# Altium integrated library Micron Memory RLDRAM Memory.IntLib: 73 symbols (part 6 of 39)
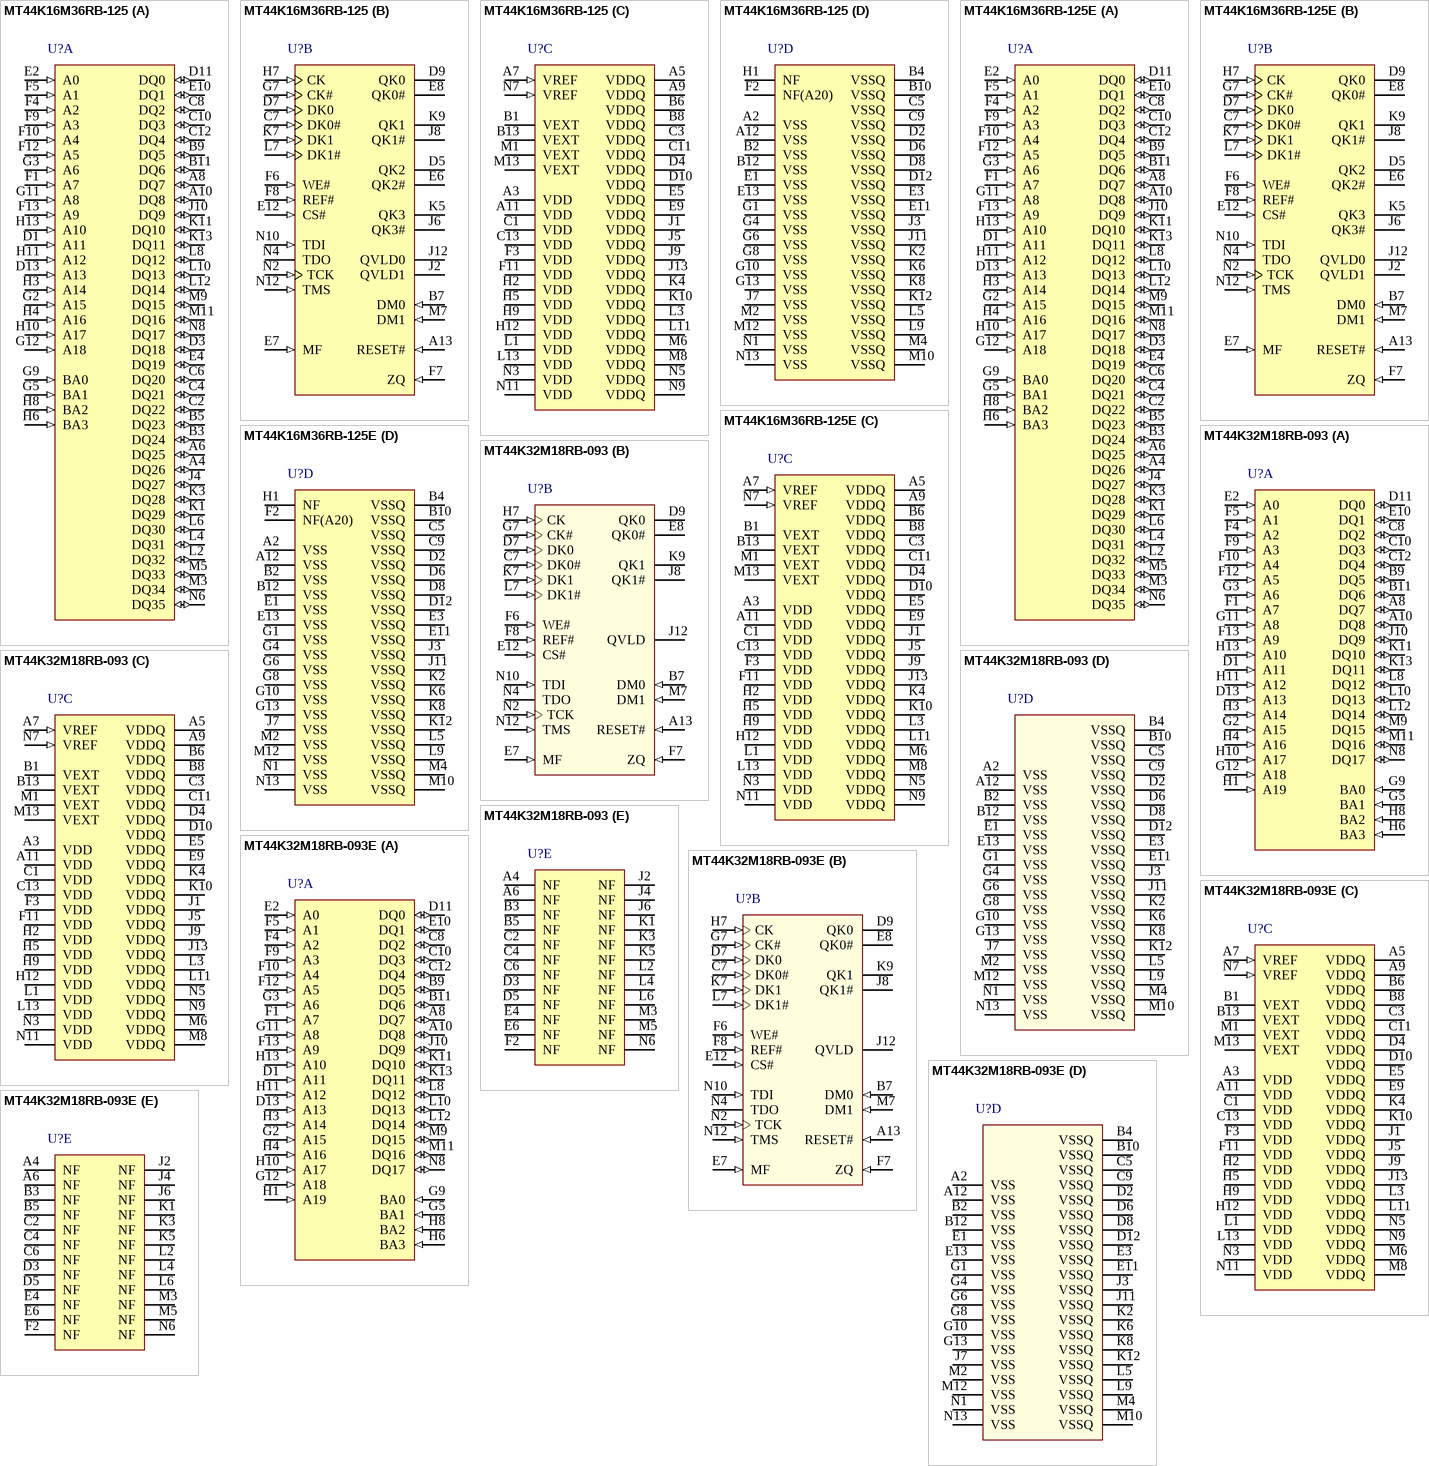
[diagram p21: symbols MT44K16M36RB-125 to MT44K32M18RB-093E]

## MT44K16M36RB-125E
designator U?
576Mb RLDRAM 3, 16Mb x 36, 10ns, 1.35V, 0 to 95 degC, 168-Ball FBGA, Pb-Free; Manufacturer: Micron; PartNumber: MT44K16M36RB-125E; Clock Rate: 800 MHz; I/O: Common; Op. Temp.: 0C to +95C; DatasheetVersion: Rev.B; PackageReference: MICT-RB-168; PackageDescription: 168-Ball Fine-Pitch Ball Grid Array, 13.5 x 13.5 mm, Pitch 1 mm; Cycle Time: 10ns; Density: 576Mb; Depth: 16Mb; Package: FBGA; Pin Count: 168-ball; RoHS: Yes; Technology: RLDRAM 3; Voltage: 1.35V; Width: x36; Mounting Technology: Surface Mount; ComponentLink1Description: Manufacturer URL; ComponentLink1URL: http://www.micron.com/; ComponentLink2Description: Datasheet; ComponentLink2URL: http://www.micron.com/~/media/Documents/Products/Data%20Sheet/DRAM/576mb_rldram3.pdf; ComponentLink3Description: Package Specification; ComponentLink3URL: http://www.micron.com/~/media/Documents/Products/Data%20Sheet/DRAM/576mb_rldram3.pdf
footprint MICT-RB-168 (BGA, 100-Balls, Body 13.5x13.5mm, Pitch 1mm)
part A pins: A4 DQ26 (io) "Data input: The DQ signals form the 36-bit data bus. During READ commands, the data is referenced to both edges of QK. During WRITE commands, the data is sampled at both edges of DK.", A6 DQ25 (io) "Data input: The DQ signals form the 36-bit data bus. During READ commands, the data is referenced to both edges of QK. During WRITE commands, the data is sampled at both edges of DK.", A8 DQ7 (io) "Data input: The DQ signals form the 36-bit data bus. During READ commands, the data is referenced to both edges of QK. During WRITE commands, the data is sampled at both edges of DK.", A10 DQ8 (io) "Data input: The DQ signals form the 36-bit data bus. During READ commands, the data is referenced to both edges of QK. During WRITE commands, the data is sampled at both edges of DK.", B3 DQ24 (io) "Data input: The DQ signals form the 36-bit data bus. During READ commands, the data is referenced to both edges of QK. During WRITE commands, the data is sampled at both edges of DK.", B5 DQ23 (io) "Data input: The DQ signals form the 36-bit data bus. During READ commands, the data is referenced to both edges of QK. During WRITE commands, the data is sampled at both edges of DK.", B9 DQ5 (io) "Data input: The DQ signals form the 36-bit data bus. During READ commands, the data is referenced to both edges of QK. During WRITE commands, the data is sampled at both edges of DK.", B11 DQ6 (io) "Data input: The DQ signals form the 36-bit data bus. During READ commands, the data is referenced to both edges of QK. During WRITE commands, the data is sampled at both edges of DK.", C2 DQ22 (io) "Data input: The DQ signals form the 36-bit data bus. During READ commands, the data is referenced to both edges of QK. During WRITE commands, the data is sampled at both edges of DK.", C4 DQ21 (io) "Data input: The DQ signals form the 36-bit data bus. During READ commands, the data is referenced to both edges of QK. During WRITE commands, the data is sampled at both edges of DK.", C6 DQ20 (io) "Data input: The DQ signals form the 36-bit data bus. During READ commands, the data is referenced to both edges of QK. During WRITE commands, the data is sampled at both edges of DK.", C8 DQ2 (io) "Data input: The DQ signals form the 36-bit data bus. During READ commands, the data is referenced to both edges of QK. During WRITE commands, the data is sampled at both edges of DK.", C10 DQ3 (io) "Data input: The DQ signals form the 36-bit data bus. During READ commands, the data is referenced to both edges of QK. During WRITE commands, the data is sampled at both edges of DK.", C12 DQ4 (io) "Data input: The DQ signals form the 36-bit data bus. During READ commands, the data is referenced to both edges of QK. During WRITE commands, the data is sampled at both edges of DK.", D1 A11 (in) "Address inputs: A[19:0] define the row and column addresses for READ and WRITE operations. During a MODE REGISTER SET, the address inputs define the register settings along with BA[3:0]. They are sampled at the rising edge (See Datasheet)", D3 DQ18 (io) "Data input: The DQ signals form the 36-bit data bus. During READ commands, the data is referenced to both edges of QK. During WRITE commands, the data is sampled at both edges of DK.", D11 DQ0 (io) "Data input: The DQ signals form the 36-bit data bus. During READ commands, the data is referenced to both edges of QK. During WRITE commands, the data is sampled at both edges of DK.", D13 A13 (in) "Address inputs: A[19:0] define the row and column addresses for READ and WRITE operations. During a MODE REGISTER SET, the address inputs define the register settings along with BA[3:0]. They are sampled at the rising edge (See Datasheet)", E2 A0 (in) "Address inputs: A[19:0] define the row and column addresses for READ and WRITE operations. During a MODE REGISTER SET, the address inputs define the register settings along with BA[3:0]. They are sampled at the rising edge (See Datasheet)", E4 DQ19 (io) "Data input: The DQ signals form the 36-bit data bus. During READ commands, the data is referenced to both edges of QK. During WRITE commands, the data is sampled at both edges of DK.", E10 DQ1 (io) "Data input: The DQ signals form the 36-bit data bus. During READ commands, the data is referenced to both edges of QK. During WRITE commands, the data is sampled at both edges of DK.", F1 A7 (in) "Address inputs: A[19:0] define the row and column addresses for READ and WRITE operations. During a MODE REGISTER SET, the address inputs define the register settings along with BA[3:0]. They are sampled at the rising edge (See Datasheet)", F4 A2 (in) "Address inputs: A[19:0] define the row and column addresses for READ and WRITE operations. During a MODE REGISTER SET, the address inputs define the register settings along with BA[3:0]. They are sampled at the rising edge (See Datasheet)", F5 A1 (in) "Address inputs: A[19:0] define the row and column addresses for READ and WRITE operations. During a MODE REGISTER SET, the address inputs define the register settings along with BA[3:0]. They are sampled at the rising edge (See Datasheet)", F9 A3 (in) "Address inputs: A[19:0] define the row and column addresses for READ and WRITE operations. During a MODE REGISTER SET, the address inputs define the register settings along with BA[3:0]. They are sampled at the rising edge (See Datasheet)", F10 A4 (in) "Address inputs: A[19:0] define the row and column addresses for READ and WRITE operations. During a MODE REGISTER SET, the address inputs define the register settings along with BA[3:0]. They are sampled at the rising edge (See Datasheet)", F12 A5 (in) "Address inputs: A[19:0] define the row and column addresses for READ and WRITE operations. During a MODE REGISTER SET, the address inputs define the register settings along with BA[3:0]. They are sampled at the rising edge (See Datasheet)", F13 A9 (in) "Address inputs: A[19:0] define the row and column addresses for READ and WRITE operations. During a MODE REGISTER SET, the address inputs define the register settings along with BA[3:0]. They are sampled at the rising edge (See Datasheet)", G2 A15 (in) "Address inputs: A[19:0] define the row and column addresses for READ and WRITE operations. During a MODE REGISTER SET, the address inputs define the register settings along with BA[3:0]. They are sampled at the rising edge (See Datasheet)", G3 A6 (in) "79", G5 BA1 (in) "Bank address inputs: Select the internal bank to which a command is being applied.", G9 BA0 (in) "Bank address inputs: Select the internal bank to which a command is being applied.", G11 A8 (in) "Address inputs: A[19:0] define the row and column addresses for READ and WRITE operations. During a MODE REGISTER SET, the address inputs define the register settings along with BA[3:0]. They are sampled at the rising edge (See Datasheet)", G12 A18 (in) "Address inputs: A[19:0] define the row and column addresses for READ and WRITE operations. During a MODE REGISTER SET, the address inputs define the register settings along with BA[3:0]. They are sampled at the rising edge (See Datasheet)", H3 A14 (in) "Address inputs: A[19:0] define the row and column addresses for READ and WRITE operations. During a MODE REGISTER SET, the address inputs define the register settings along with BA[3:0]. They are sampled at the rising edge (See Datasheet)", H4 A16 (in) "Address inputs: A[19:0] define the row and column addresses for READ and WRITE operations. During a MODE REGISTER SET, the address inputs define the register settings along with BA[3:0]. They are sampled at the rising edge (See Datasheet)", H6 BA3 (in) "Bank address inputs: Select the internal bank to which a command is being applied.", H8 BA2 (in) "Bank address inputs: Select the internal bank to which a command is being applied.", H10 A17 (in) "Address inputs: A[19:0] define the row and column addresses for READ and WRITE operations. During a MODE REGISTER SET, the address inputs define the register settings along with BA[3:0]. They are sampled at the rising edge (See Datasheet)", H11 A12 (in) "Address inputs: A[19:0] define the row and column addresses for READ and WRITE operations. During a MODE REGISTER SET, the address inputs define the register settings along with BA[3:0]. They are sampled at the rising edge (See Datasheet)", H13 A10 (in) "Address inputs: A[19:0] define the row and column addresses for READ and WRITE operations. During a MODE REGISTER SET, the address inputs define the register settings along with BA[3:0]. They are sampled at the rising edge (See Datasheet)", J4 DQ27 (io) "Data input: The DQ signals form the 36-bit data bus. During READ commands, the data is referenced to both edges of QK. During WRITE commands, the data is sampled at both edges of DK", J10 DQ9 (io) "Data input: The DQ signals form the 36-bit data bus. During READ commands, the data is referenced to both edges of QK. During WRITE commands, the data is sampled at both edges of DK.", K1 DQ29 (io) "Data input: The DQ signals form the 36-bit data bus. During READ commands, the data is referenced to both edges of QK. During WRITE commands, the data is sampled at both edges of DK.", K3 DQ28 (io) "Data input: The DQ signals form the 36-bit data bus. During READ commands, the data is referenced to both edges of QK. During WRITE commands, the data is sampled at both edges of DK.", K11 DQ10 (io) "Data input: The DQ signals form the 36-bit data bus. During READ commands, the data is referenced to both edges of QK. During WRITE commands, the data is sampled at both edges of DK.", K13 DQ11 (io) "Data input: The DQ signals form the 36-bit data bus. During READ commands, the data is referenced to both edges of QK. During WRITE commands, the data is sampled at both edges of DK.", L2 DQ32 (io) "Data input: The DQ signals form the 36-bit data bus. During READ commands, the data is referenced to both edges of QK. During WRITE commands, the data is sampled at both edges of DK.", L4 DQ31 (io) "Data input: The DQ signals form the 36-bit data bus. During READ commands, the data is referenced to both edges of QK. During WRITE commands, the data is sampled at both edges of DK.", L6 DQ30 (io) "Data input: The DQ signals form the 36-bit data bus. During READ commands, the data is referenced to both edges of QK. During WRITE commands, the data is sampled at both edges of DK.", L8 DQ12 (io) "Data input: The DQ signals form the 36-bit data bus. During READ commands, the data is referenced to both edges of QK. During WRITE commands, the data is sampled at both edges of DK.", L10 DQ13 (io) "Data input: The DQ signals form the 36-bit data bus. During READ commands, the data is referenced to both edges of QK. During WRITE commands, the data is sampled at both edges of DK.", L12 DQ14 (io) "Data input: The DQ signals form the 36-bit data bus. During READ commands, the data is referenced to both edges of QK. During WRITE commands, the data is sampled at both edges of DK.", M3 DQ34 (io) "Data input: The DQ signals form the 36-bit data bus. During READ commands, the data is referenced to both edges of QK. During WRITE commands, the data is sampled at both edges of DK.", M5 DQ33 (io) "Data input: The DQ signals form the 36-bit data bus. During READ commands, the data is referenced to both edges of QK. During WRITE commands, the data is sampled at both edges of DK.", M9 DQ15 (io) "Data input: The DQ signals form the 36-bit data bus. During READ commands, the data is referenced to both edges of QK. During WRITE commands, the data is sampled at both edges of DK.", M11 DQ16 (io) "Data input: The DQ signals form the 36-bit data bus. During READ commands, the data is referenced to both edges of QK. During WRITE commands, the data is sampled at both edges of DK.", N6 DQ35 (io) "Data input: The DQ signals form the 36-bit data bus. During READ commands, the data is referenced to both edges of QK. During WRITE commands, the data is sampled at both edges of DK.", N8 DQ17 (io) "Data input: The DQ signals form the 36-bit data bus. During READ commands, the data is referenced to both edges of QK. During WRITE commands, the data is sampled at both edges of DK."
part B pins: A13 RESET# (in) "Reset: RESET# is an active LOW CMOS input referenced to VSS . RESET# assertion and deassertion are asynchronous. RESET# is a CMOS input defined with DC HIGH >= 0.8 x VDD and DC LOW =< 0.2 x VDDQ.", B7 DM0 (in) "Input data mask: DM is the input mask signal for WRITE data. Input data is masked when DM is sampled HIGH. DM0 is used to mask the lower byte for the x18 device and DQ[8:0] and DQ[26:18] for the x36 device. DM1 is used to (See Datasheet)", C7 DK0# (in) "Input data clock: DKx and DKx# are differential input data clocks. All input data is referenced to both edges of DKx. For the x36 device, DQ[8:0] and DQ[26:18] are referenced to DK0 and DK0#, and DQ[17:9] and DQ[35:27] are (See Datasheet)", D5 QK2 (hiz) "Output data clocks: QK and QK# are opposite-polarity output data clocks. They are free-running signals and during READ commands are edge-aligned with the DQs. For the x36 device, QK0, QK0# align with DQ[8:0]; QK1, QK1# align (See Datasheet)", D7 DK0 (in) "Input data clock: DKx and DKx# are differential input data clocks. All input data is referenced to both edges of DKx. For the x36 device, DQ[8:0] and DQ[26:18] are referenced to DK0 and DK0#, and DQ[17:9] and DQ[35:27] are (See Datasheet)", D9 QK0 (hiz) "Output data clocks: QK and QK# are opposite-polarity output data clocks. They are free-running signals and during READ commands are edge-aligned with the DQs. For the x36 device, QK0, QK0# align with DQ[8:0]; QK1, QK1# align (See Datasheet)", E6 QK2# (hiz) "Output data clocks: QK and QK# are opposite-polarity output data clocks. They are free-running signals and during READ commands are edge-aligned with the DQs. For the x36 device, QK0, QK0# align with DQ[8:0]; QK1, QK1# align (See Datasheet)", E7 MF (in) "Mirror function: The mirror function ball is a DC input used to create mirrored ballouts for simple dual-loaded clamshell mounting. If the ball is tied to VSS , the address and command balls are in their true layout. If the (See Datasheet)", E8 QK0# (hiz) "Output data clocks: QK and QK# are opposite-polarity output data clocks. They are free-running signals and during READ commands are edge-aligned with the DQs. For the x36 device, QK0, QK0# align with DQ[8:0]; QK1, QK1# align (See Datasheet)", E12 CS# (in) "Chip select: CS# enables the command decoder when LOW and disables it when HIGH. When the command decoder is disabled, new commands are ignored, but internal operations continue.", F6 WE# (in) "Command inputs: Sampled at the positive edge of CK, WE# and REF# (together with CS#) define the command to be executed.", F7 ZQ (in) "External impedance: This signal is used to tune the device’s output impedance and ODT. RZQ needs to be 240ohm, where RZQ is a resistor from this signal to ground.", F8 REF# (in) "Command inputs: Sampled at the positive edge of CK, WE# and REF# (together with CS#) define the command to be executed.", G7 CK# (in) "Input clock: CK and CK# are differential input clocks. Addresses and commands are latched on the rising edge of CK.", H7 CK (in) "Input clock: CK and CK# are differential input clocks. Addresses and commands are latched on the rising edge of CK.", J2 QVLD1 (hiz) "Data valid: The QVLD ball indicates that valid output data will be available on the subsequent rising clock edge. There is a single QVLD ball for the x18 device and two, QVLD0 and QVLD1, for the x36 device. QVLD0 aligns with (See Datasheet)", J6 QK3# (hiz) "Output data clocks: QK and QK# are opposite-polarity output data clocks. They are free-running signals and during READ commands are edge-aligned with the DQs. For the x36 device, QK0, QK0# align with DQ[8:0]; QK1, QK1# align (See Datasheet)", J8 QK1# (hiz) "Output data clocks: QK and QK# are opposite-polarity output data clocks. They are free-running signals and during READ commands are edge-aligned with the DQs. For the x36 device, QK0, QK0# align with DQ[8:0]; QK1, QK1# align (See Datasheet)", J12 QVLD0 (hiz) "Data valid: The QVLD ball indicates that valid output data will be available on the subsequent rising clock edge. There is a single QVLD ball for the x18 device and two, QVLD0 and QVLD1, for the x36 device. QVLD0 aligns with (See Datasheet)", K5 QK3 (hiz) "Output data clocks: QK and QK# are opposite-polarity output data clocks. They are free-running signals and during READ commands are edge-aligned with the DQs. For the x36 device, QK0, QK0# align with DQ[8:0]; QK1, QK1# align (See Datasheet)", K7 DK1 (in) "Input data clock: DKx and DKx# are differential input data clocks. All input data is referenced to both edges of DKx. For the x36 device, DQ[8:0] and DQ[26:18] are referenced to DK0 and DK0#, and DQ[17:9] and DQ[35:27] are (See Datasheet)", K9 QK1 (hiz) "Output data clocks: QK and QK# are opposite-polarity output data clocks. They are free-running signals and during READ commands are edge-aligned with the DQs. For the x36 device, QK0, QK0# align with DQ[8:0]; QK1, QK1# align (See Datasheet)", L7 DK1# (in) "Input data clock: DKx and DKx# are differential input data clocks. All input data is referenced to both edges of DKx. For the x36 device, DQ[8:0] and DQ[26:18] are referenced to DK0 and DK0#, and DQ[17:9] and DQ[35:27] are (See Datasheet)", M7 DM1 (in) "Input data mask: DM is the input mask signal for WRITE data. Input data is masked when DM is sampled HIGH. DM0 is used to mask the lower byte for the x18 device and DQ[8:0] and DQ[26:18] for the x36 device. DM1 is used to (See Datasheet)", N2 TCK (in) "IEEE 1149.1 clock input: This ball must be tied to VSS  if the JTAG function is not used.", N4 TDO (hiz) "IEEE 1149.1 test output: JTAG output. This ball may be left as no connect if the JTAG function is not used.", N10 TDI (in) "IEEE 1149.1 test inputs: These balls may be left as no connects if the JTAG function is not used.", N12 TMS (in) "IEEE 1149.1 test inputs: These balls may be left as no connects if the JTAG function is not used."
part C pins: A3 VDD (power) "Power supply: 1.35V nominal. See Table 7 (page 22) for range.", A5 VDDQ (power) "DQ power supply: 1.2V nominal. Isolated on the device for improved noise immunity. See Table 7 (page 22) for range.", A7 VREF (in) "Input reference voltage: VDDQ/2 nominal. Provides a reference voltage for the input buffers.", A9 VDDQ (power) "DQ power supply: 1.2V nominal. Isolated on the device for improved noise immunity. See Table 7 (page 22) for range.", A11 VDD (power) "Power supply: 1.35V nominal. See Table 7 (page 22) for range.", B1 VEXT (power) "Power supply: 2.5V nominal. See Table 7 (page 22) for range", B6 VDDQ (power) "DQ power supply: 1.2V nominal. Isolated on the device for improved noise immunity. See Table 7 (page 22) for range.", B8 VDDQ (power) "DQ power supply: 1.2V nominal. Isolated on the device for improved noise immunity. See Table 7 (page 22) for range.", B13 VEXT (power) "Power supply: 2.5V nominal. See Table 7 (page 22) for range", C1 VDD (power) "Power supply: 1.35V nominal. See Table 7 (page 22) for range.", C3 VDDQ (power) "DQ power supply: 1.2V nominal. Isolated on the device for improved noise immunity. See Table 7 (page 22) for range.", C11 VDDQ (power) "DQ power supply: 1.2V nominal. Isolated on the device for improved noise immunity. See Table 7 (page 22) for range.", C13 VDD (power) "Power supply: 1.35V nominal. See Table 7 (page 22) for range.", D4 VDDQ (power) "DQ power supply: 1.2V nominal. Isolated on the device for improved noise immunity. See Table 7 (page 22) for range.", D10 VDDQ (power) "DQ power supply: 1.2V nominal. Isolated on the device for improved noise immunity. See Table 7 (page 22) for range.", E5 VDDQ (power) "DQ power supply: 1.2V nominal. Isolated on the device for improved noise immunity. See Table 7 (page 22) for range.", E9 VDDQ (power) "DQ power supply: 1.2V nominal. Isolated on the device for improved noise immunity. See Table 7 (page 22) for range.", F3 VDD (power) "Power supply: 1.35V nominal. See Table 7 (page 22) for range.", F11 VDD (power) "Power supply: 1.35V nominal. See Table 7 (page 22) for range.", H2 VDD (power) "Power supply: 1.35V nominal. See Table 7 (page 22) for range.", H5 VDD (power) "Power supply: 1.35V nominal. See Table 7 (page 22) for range.", H9 VDD (power) "Power supply: 1.35V nominal. See Table 7 (page 22) for range.", H12 VDD (power) "Power supply: 1.35V nominal. See Table 7 (page 22) for range.", J1 VDDQ (power) "DQ power supply: 1.2V nominal. Isolated on the device for improved noise immunity. See Table 7 (page 22) for range.", J5 VDDQ (power) "DQ power supply: 1.2V nominal. Isolated on the device for improved noise immunity. See Table 7 (page 22) for range.", J9 VDDQ (power) "DQ power supply: 1.2V nominal. Isolated on the device for improved noise immunity. See Table 7 (page 22) for range.", J13 VDDQ (power) "rising clock edge. There is a single QVLD ball for the x18 device and two, QVLD0 and QVLD1, for", K4 VDDQ (power) "DQ power supply: 1.2V nominal. Isolated on the device for improved noise immunity. See Table 7 (page 22) for range.", K10 VDDQ (power) "DQ power supply: 1.2V nominal. Isolated on the device for improved noise immunity. See Table 7 (page 22) for range.", L1 VDD (power) "Power supply: 1.35V nominal. See Table 7 (page 22) for range.", L3 VDDQ (power) "DQ power supply: 1.2V nominal. Isolated on the device for improved noise immunity. See Table 7 (page 22) for range.", L11 VDDQ (power) "DQ power supply: 1.2V nominal. Isolated on the device for improved noise immunity. See Table 7 (page 22) for range.", L13 VDD (power) "Power supply: 1.35V nominal. See Table 7 (page 22) for range.", M1 VEXT (power) "Power supply: 2.5V nominal. See Table 7 (page 22) for range", M6 VDDQ (power) "DQ power supply: 1.2V nominal. Isolated on the device for improved noise immunity. See Table 7 (page 22) for range.", M8 VDDQ (power) "DQ power supply: 1.2V nominal. Isolated on the device for improved noise immunity. See Table 7 (page 22) for range.", M13 VEXT (power) "Power supply: 2.5V nominal. See Table 7 (page 22) for range.", N3 VDD (power) "Power supply: 1.35V nominal. See Table 7 (page 22) for range.", N5 VDDQ (power) "DQ power supply: 1.2V nominal. Isolated on the device for improved noise immunity. See Table 7 (page 22) for range.", N7 VREF (in) "Input reference voltage: VDDQ/2 nominal. Provides a reference voltage for the input buffers.", N9 VDDQ (power) "DQ power supply: 1.2V nominal. Isolated on the device for improved noise immunity. See Table 7 (page 22) for range.", N11 VDD (power) "Power supply: 1.35V nominal. See Table 7 (page 22) for range."
part D pins: A2 VSS (power) "Ground", A12 VSS (power) "Ground", B2 VSS (power) "Ground", B4 VSSQ (power) "DQ ground: Isolated on the device for improved noise immunity", B10 VSSQ (power) "DQ ground: Isolated on the device for improved noise immunity", B12 VSS (power) "Ground", C5 VSSQ (power) "DQ ground: Isolated on the device for improved noise immunity", C9 VSSQ (power) "DQ ground: Isolated on the device for improved noise immunity", D2 VSSQ (power) "DQ ground: Isolated on the device for improved noise immunity", D6 VSSQ (power) "DQ ground: Isolated on the device for improved noise immunity", D8 VSSQ (power) "DQ ground: Isolated on the device for improved noise immunity", D12 VSSQ (power) "DQ ground: Isolated on the device for improved noise immunity", E1 VSS (power) "Ground", E3 VSSQ (power) "DQ ground: Isolated on the device for improved noise immunity", E11 VSSQ (power) "DQ ground: Isolated on the device for improved noise immunity", E13 VSS (power) "Ground", F2 NF(A20) "No function: These balls are connected to the DRAM, but provide no functionality.", G1 VSS (power) "Ground", G4 VSS (power) "Ground", G6 VSS (power) "Ground", G8 VSS (power) "Ground.", G10 VSS (power) "Ground.", G13 VSS (power) "Ground", H1 NF "No function: These balls are connected to the DRAM, but provide no functionality", J3 VSSQ (power) "DQ ground: Isolated on the device for improved noise immunity", J7 VSS (power) "Ground", J11 VSSQ (power) "DQ ground: Isolated on the device for improved noise immunity", K2 VSSQ (power) "DQ ground: Isolated on the device for improved noise immunity", K6 VSSQ (power) "DQ ground: Isolated on the device for improved noise immunity.", K8 VSSQ (power) "DQ ground: Isolated on the device for improved noise immunity", K12 VSSQ (power) "DQ ground: Isolated on the device for improved noise immunity", L5 VSSQ (power) "DQ ground: Isolated on the device for improved noise immunity", L9 VSSQ (power) "DQ ground: Isolated on the device for improved noise immunity", M2 VSS (power) "Ground", M4 VSSQ (power) "DQ ground: Isolated on the device for improved noise immunity", M10 VSSQ (power) "DQ ground: Isolated on the device for improved noise immunity", M12 VSS (power) "Ground", N1 VSS (power) "Ground.", N13 VSS (power) "Ground"

## MT44K32M18RB-093
designator U?
576Mb RLDRAM 3, 32Mb x 18, 10ns, 1.35V, 0 to 70 degC, 168-Ball FBGA, Pb-Free; Manufacturer: Micron; PartNumber: MT44K32M18RB-093; Clock Rate: 1067 MHz; I/O: Common; Op. Temp.: 0C to +70C; DatasheetVersion: Rev.B; PackageReference: MICT-RB-168; PackageDescription: 168-Ball Fine-Pitch Ball Grid Array, 13.5 x 13.5 mm, Pitch 1 mm; Cycle Time: 10ns; Density: 576Mb; Depth: 32Mb; Package: FBGA; Pin Count: 168-ball; RoHS: Yes; Technology: RLDRAM 3; Voltage: 1.35V; Width: x18; Mounting Technology: Surface Mount; ComponentLink1Description: Manufacturer URL; ComponentLink1URL: http://www.micron.com/; ComponentLink2Description: Datasheet; ComponentLink2URL: http://www.micron.com/~/media/Documents/Products/Data%20Sheet/DRAM/576mb_rldram3.pdf; ComponentLink3Description: Package Specification; ComponentLink3URL: http://www.micron.com/~/media/Documents/Products/Data%20Sheet/DRAM/576mb_rldram3.pdf
footprint MICT-RB-168 (BGA, 100-Balls, Body 13.5x13.5mm, Pitch 1mm)
part A pins: A8 DQ7 (io) "Data input: The DQ signals form the 36-bit data bus. During READ commands, the data is referenced to both edges of QK. During WRITE commands, the data is sampled at both edges of DK.", A10 DQ8 (io) "Data input: The DQ signals form the 36-bit data bus. During READ commands, the data is referenced to both edges of QK. During WRITE commands, the data is sampled at both edges of DK.", B9 DQ5 (io) "Data input: The DQ signals form the 36-bit data bus. During READ commands, the data is referenced to both edges of QK. During WRITE commands, the data is sampled at both edges of DK.", B11 DQ6 (io) "Data input: The DQ signals form the 36-bit data bus. During READ commands, the data is referenced to both edges of QK. During WRITE commands, the data is sampled at both edges of DK.", C8 DQ2 (io) "Data input: The DQ signals form the 36-bit data bus. During READ commands, the data is referenced to both edges of QK. During WRITE commands, the data is sampled at both edges of DK.", C10 DQ3 (io) "Data input: The DQ signals form the 36-bit data bus. During READ commands, the data is referenced to both edges of QK. During WRITE commands, the data is sampled at both edges of DK.", C12 DQ4 (io) "Data input: The DQ signals form the 36-bit data bus. During READ commands, the data is referenced to both edges of QK. During WRITE commands, the data is sampled at both edges of DK.", D1 A11 (in) "Address inputs: A[19:0] define the row and column addresses for READ and WRITE operations. During a MODE REGISTER SET, the address inputs define the register settings along with BA[3:0]. They are sampled at the rising edge (See Datasheet)", D11 DQ0 (io) "Data input: The DQ signals form the 36-bit data bus. During READ commands, the data is referenced to both edges of QK. During WRITE commands, the data is sampled at both edges of DK.", D13 A13 (in) "Address inputs: A[19:0] define the row and column addresses for READ and WRITE operations. During a MODE REGISTER SET, the address inputs define the register settings along with BA[3:0]. They are sampled at the rising edge (See Datasheet)", E2 A0 (in) "Address inputs: A[19:0] define the row and column addresses for READ and WRITE operations. During a MODE REGISTER SET, the address inputs define the register settings along with BA[3:0]. They are sampled at the rising edge (See Datasheet)", E10 DQ1 (io) "Data input: The DQ signals form the 36-bit data bus. During READ commands, the data is referenced to both edges of QK. During WRITE commands, the data is sampled at both edges of DK.", F1 A7 (in) "Address inputs: A[19:0] define the row and column addresses for READ and WRITE operations. During a MODE REGISTER SET, the address inputs define the register settings along with BA[3:0]. They are sampled at the rising edge (See Datasheet)", F4 A2 (in) "Address inputs: A[19:0] define the row and column addresses for READ and WRITE operations. During a MODE REGISTER SET, the address inputs define the register settings along with BA[3:0]. They are sampled at the rising edge (See Datasheet)", F5 A1 (in) "Address inputs: A[19:0] define the row and column addresses for READ and WRITE operations. During a MODE REGISTER SET, the address inputs define the register settings along with BA[3:0]. They are sampled at the rising edge (See Datasheet)", F9 A3 (in) "Address inputs: A[19:0] define the row and column addresses for READ and WRITE operations. During a MODE REGISTER SET, the address inputs define the register settings along with BA[3:0]. They are sampled at the rising edge (See Datasheet)", F10 A4 (in) "Address inputs: A[19:0] define the row and column addresses for READ and WRITE operations. During a MODE REGISTER SET, the address inputs define the register settings along with BA[3:0]. They are sampled at the rising edge (See Datasheet)", F12 A5 (in) "Address inputs: A[19:0] define the row and column addresses for READ and WRITE operations. During a MODE REGISTER SET, the address inputs define the register settings along with BA[3:0]. They are sampled at the rising edge (See Datasheet)", F13 A9 (in) "Address inputs: A[19:0] define the row and column addresses for READ and WRITE operations. During a MODE REGISTER SET, the address inputs define the register settings along with BA[3:0]. They are sampled at the rising edge (See Datasheet)", G2 A15 (in) "Address inputs: A[19:0] define the row and column addresses for READ and WRITE operations. During a MODE REGISTER SET, the address inputs define the register settings along with BA[3:0]. They are sampled at the rising edge (See Datasheet)", G3 A6 (in) "Address inputs: A[19:0] define the row and column addresses for READ and WRITE operations. During a MODE REGISTER SET, the address inputs define the register settings along with BA[3:0]. They are sampled at the rising edge (See Datasheet)", G5 BA1 (in) "Bank address inputs: Select the internal bank to which a command is being applied.", G9 BA0 (in) "Bank address inputs: Select the internal bank to which a command is being applied.", G11 A8 (in) "Address inputs: A[19:0] define the row and column addresses for READ and WRITE operations. During a MODE REGISTER SET, the address inputs define the register settings along with BA[3:0]. They are sampled at the rising edge (See Datasheet)", G12 A18 (in) "Address inputs: A[19:0] define the row and column addresses for READ and WRITE operations. During a MODE REGISTER SET, the address inputs define the register settings along with BA[3:0]. They are sampled at the rising edge (See Datasheet)", H1 A19 (in) "Address inputs: A[19:0] define the row and column addresses for READ and WRITE operations. During a MODE REGISTER SET, the address inputs define the register settings along with BA[3:0]. They are sampled at the rising edge (See Datasheet)", H3 A14 (in) "Address inputs: A[19:0] define the row and column addresses for READ and WRITE operations. During a MODE REGISTER SET, the address inputs define the register settings along with BA[3:0]. They are sampled at the rising edge (See Datasheet)", H4 A16 (in) "Address inputs: A[19:0] define the row and column addresses for READ and WRITE operations. During a MODE REGISTER SET, the address inputs define the register settings along with BA[3:0]. They are sampled at the rising edge (See Datasheet)", H6 BA3 (in) "Bank address inputs: Select the internal bank to which a command is being applied.", H8 BA2 (in) "Bank address inputs: Select the internal bank to which a command is being applied.", H10 A17 (in) "Address inputs: A[19:0] define the row and column addresses for READ and WRITE operations. During a MODE REGISTER SET, the address inputs define the register settings along with BA[3:0]. They are sampled at the rising edge (See Datasheet)", H11 A12 (in) "Address inputs: A[19:0] define the row and column addresses for READ and WRITE operations. During a MODE REGISTER SET, the address inputs define the register settings along with BA[3:0]. They are sampled at the rising edge (See Datasheet)", H13 A10 (in) "Address inputs: A[19:0] define the row and column addresses for READ and WRITE operations. During a MODE REGISTER SET, the address inputs define the register settings along with BA[3:0]. They are sampled at the rising edge (See Datasheet)", J10 DQ9 (io) "Data input: The DQ signals form the 36-bit data bus. During READ commands, the data is referenced to both edges of QK. During WRITE commands, the data is sampled at both edges of DK.", K11 DQ10 (io) "Data input: The DQ signals form the 36-bit data bus. During READ commands, the data is referenced to both edges of QK. During WRITE commands, the data is sampled at both edges of DK.", K13 DQ11 (io) "Data input: The DQ signals form the 36-bit data bus. During READ commands, the data is referenced to both edges of QK. During WRITE commands, the data is sampled at both edges of DK.", L8 DQ12 (io) "Data input: The DQ signals form the 36-bit data bus. During READ commands, the data is referenced to both edges of QK. During WRITE commands, the data is sampled at both edges of DK.", L10 DQ13 (io) "Data input: The DQ signals form the 36-bit data bus. During READ commands, the data is referenced to both edges of QK. During WRITE commands, the data is sampled at both edges of DK.", L12 DQ14 (io) "Data input: The DQ signals form the 36-bit data bus. During READ commands, the data is referenced to both edges of QK. During WRITE commands, the data is sampled at both edges of DK.", M9 DQ15 (io) "Data input: The DQ signals form the 36-bit data bus. During READ commands, the data is referenced to both edges of QK. During WRITE commands, the data is sampled at both edges of DK.", M11 DQ16 (io) "Data input: The DQ signals form the 36-bit data bus. During READ commands, the data is referenced to both edges of QK. During WRITE commands, the data is sampled at both edges of DK.", N8 DQ17 (io) "Data input: The DQ signals form the 36-bit data bus. During READ commands, the data is referenced to both edges of QK. During WRITE commands, the data is sampled at both edges of DK."
part B pins: A13 RESET# (in) "Reset: RESET# is an active LOW CMOS input referenced to VSS . RESET# assertion and deassertion are asynchronous. RESET# is a CMOS input defined with DC HIGH >= 0.8 x VDD and DC LOW =< 0.2 x VDDQ.", B7 DM0 (in) "Input data mask: DM is the input mask signal for WRITE data. Input data is masked when DM is sampled HIGH. DM0 is used to mask the lower byte for the x18 device and DQ[8:0] and DQ[26:18] for the x36 device. DM1 is used to (See Datasheet)", C7 DK0# (in) "Input data clock: DKx and DKx# are differential input data clocks. All input data is referenced to both edges of DKx. For the x36 device, DQ[8:0] and DQ[26:18] are referenced to DK0 and DK0#, and DQ[17:9] and DQ[35:27] are (See Datasheet)", D7 DK0 (in) "Input data clock: DKx and DKx# are differential input data clocks. All input data is referenced to both edges of DKx. For the x36 device, DQ[8:0] and DQ[26:18] are referenced to DK0 and DK0#, and DQ[17:9] and DQ[35:27] are (See Datasheet)", D9 QK0 (hiz) "Output data clocks: QK and QK# are opposite-polarity output data clocks. They are free-running signals and during READ commands are edge-aligned with the DQs. For the x36 device, QK0, QK0# align with DQ[8:0]; QK1, QK1# align (See Datasheet)", E7 MF (in) "Mirror function: The mirror function ball is a DC input used to create mirrored ballouts for simple dual-loaded clamshell mounting. If the ball is tied to VSS , the address and command balls are in their true layout. If the (See Datasheet)", E8 QK0# (hiz) "Output data clocks: QK and QK# are opposite-polarity output data clocks. They are free-running signals and during READ commands are edge-aligned with the DQs. For the x36 device, QK0, QK0# align with DQ[8:0]; QK1, QK1# align (See Datasheet)", E12 CS# (in) "Chip select: CS# enables the command decoder when LOW and disables it when HIGH. When the command decoder is disabled, new commands are ignored, but internal operations continue.", F6 WE# (in) "Command inputs: Sampled at the positive edge of CK, WE# and REF# (together with CS#) define the command to be executed.", F7 ZQ (in) "External impedance: This signal is used to tune the device’s output impedance and ODT. RZQ needs to be 240ohm, where RZQ is a resistor from this signal to ground.", F8 REF# (in) "Command inputs: Sampled at the positive edge of CK, WE# and REF# (together with CS#) define the command to be executed.", G7 CK# (in) "Input clock: CK and CK# are differential input clocks. Addresses and commands are latched on the rising edge of CK.", H7 CK (in) "Input clock: CK and CK# are differential input clocks. Addresses and commands are latched on the rising edge of CK.", J8 QK1# (hiz) "Output data clocks: QK and QK# are opposite-polarity output data clocks. They are free-running signals and during READ commands are edge-aligned with the DQs. For the x36 device, QK0, QK0# align with DQ[8:0]; QK1, QK1# align (See Datasheet)", J12 QVLD (hiz) "Data valid: The QVLD ball indicates that valid output data will be available on the subsequent rising clock edge. There is a single QVLD ball for the x18 device and two, QVLD0 and QVLD1, for the x36 device. QVLD0 aligns with (See Datasheet)", K7 DK1 (in) "Input data clock: DKx and DKx# are differential input data clocks. All input data is referenced to both edges of DKx. For the x36 device, DQ[8:0] and DQ[26:18] are referenced to DK0 and DK0#, and DQ[17:9] and DQ[35:27] are (See Datasheet)", K9 QK1 (hiz) "Output data clocks: QK and QK# are opposite-polarity output data clocks. They are free-running signals and during READ commands are edge-aligned with the DQs. For the x36 device, QK0, QK0# align with DQ[8:0]; QK1, QK1# align (See Datasheet)", L7 DK1# (in) "Input data clock: DKx and DKx# are differential input data clocks. All input data is referenced to both edges of DKx. For the x36 device, DQ[8:0] and DQ[26:18] are referenced to DK0 and DK0#, and DQ[17:9] and DQ[35:27] are (See Datasheet)", M7 DM1 (in) "Input data mask: DM is the input mask signal for WRITE data. Input data is masked when DM is sampled HIGH. DM0 is used to mask the lower byte for the x18 device and DQ[8:0] and DQ[26:18] for the x36 device. DM1 is used to (See Datasheet)", N2 TCK (in) "IEEE 1149.1 clock input: This ball must be tied to VSS  if the JTAG function is not used.", N4 TDO (hiz) "IEEE 1149.1 test output: JTAG output. This ball may be left as no connect if the JTAG function is not used.", N10 TDI (in) "IEEE 1149.1 test inputs: These balls may be left as no connects if the JTAG function is not used.", N12 TMS (in) "IEEE 1149.1 test inputs: These balls may be left as no connects if the JTAG function is not used."
part C pins: A3 VDD (power) "Power supply: 1.35V nominal. See Table 7 (page 22) for range.", A5 VDDQ (power) "DQ power supply: 1.2V nominal. Isolated on the device for improved noise immunity. See Table 7 (page 22) for range.", A7 VREF (in) "Input reference voltage: VDDQ/2 nominal. Provides a reference voltage for the input buffers.", A9 VDDQ (power) "DQ power supply: 1.2V nominal. Isolated on the device for improved noise immunity. See Table 7 (page 22) for range.", A11 VDD (power) "Power supply: 1.35V nominal. See Table 7 (page 22) for range.", B1 VEXT (power) "Power supply: 2.5V nominal. See Table 7 (page 22) for range.", B6 VDDQ (power) "DQ power supply: 1.2V nominal. Isolated on the device for improved noise immunity. See Table 7 (page 22) for range.", B8 VDDQ (power) "DQ power supply: 1.2V nominal. Isolated on the device for improved noise immunity. See Table 7 (page 22) for range.", B13 VEXT (power) "Power supply: 2.5V nominal. See Table 7 (page 22) for range.", C1 VDD (power) "Power supply: 1.35V nominal. See Table 7 (page 22) for range.", C3 VDDQ (power) "DQ power supply: 1.2V nominal. Isolated on the device for improved noise immunity. See Table 7 (page 22) for range.", C11 VDDQ (power) "DQ power supply: 1.2V nominal. Isolated on the device for improved noise immunity. See Table 7 (page 22) for range.", C13 VDD (power) "Power supply: 1.35V nominal. See Table 7 (page 22) for range.", D4 VDDQ (power) "DQ power supply: 1.2V nominal. Isolated on the device for improved noise immunity. See Table 7 (page 22) for range.", D10 VDDQ (power) "DQ power supply: 1.2V nominal. Isolated on the device for improved noise immunity. See Table 7 (page 22) for range.", E5 VDDQ (power) "DQ power supply: 1.2V nominal. Isolated on the device for improved noise immunity. See Table 7 (page 22) for range.", E9 VDDQ (power) "DQ power supply: 1.2V nominal. Isolated on the device for improved noise immunity. See Table 7 (page 22) for range.", F3 VDD (power) "Power supply: 1.35V nominal. See Table 7 (page 22) for range.", F11 VDD (power) "Power supply: 1.35V nominal. See Table 7 (page 22) for range.", H2 VDD (power) "Power supply: 1.35V nominal. See Table 7 (page 22) for range.", H5 VDD (power) "Power supply: 1.35V nominal. See Table 7 (page 22) for range.", H9 VDD (power) "Power supply: 1.35V nominal. See Table 7 (page 22) for range.", H12 VDD (power) "Power supply: 1.35V nominal. See Table 7 (page 22) for range.", J1 VDDQ (power) "DQ power supply: 1.2V nominal. Isolated on the device for improved noise immunity. See Table 7 (page 22) for range.", J5 VDDQ (power) "DQ power supply: 1.2V nominal. Isolated on the device for improved noise immunity. See Table 7 (page 22) for range.", J9 VDDQ (power) "DQ power supply: 1.2V nominal. Isolated on the device for improved noise immunity. See Table 7 (page 22) for range.", J13 VDDQ (power) "DQ power supply: 1.2V nominal. Isolated on the device for improved noise immunity. See Table 7 (page 22) for range.", K4 VDDQ (power) "DQ power supply: 1.2V nominal. Isolated on the device for improved noise immunity. See Table 7 (page 22) for range.", K10 VDDQ (power) "DQ power supply: 1.2V nominal. Isolated on the device for improved noise immunity. See Table 7 (page 22) for range.", L1 VDD (power) "Power supply: 1.35V nominal. See Table 7 (page 22) for range.", L3 VDDQ (power) "DQ power supply: 1.2V nominal. Isolated on the device for improved noise immunity. See Table 7 (page 22) for range.", L11 VDDQ (power) "DQ power supply: 1.2V nominal. Isolated on the device for improved noise immunity. See Table 7 (page 22) for range.", L13 VDD (power) "Power supply: 1.35V nominal. See Table 7 (page 22) for range.", M1 VEXT (power) "Power supply: 2.5V nominal. See Table 7 (page 22) for range.", M6 VDDQ (power) "DQ power supply: 1.2V nominal. Isolated on the device for improved noise immunity. See Table 7 (page 22) for range.", M8 VDDQ (power) "DQ power supply: 1.2V nominal. Isolated on the device for improved noise immunity. See Table 7 (page 22) for range.", M13 VEXT (power) "Power supply: 2.5V nominal. See Table 7 (page 22) for range.", N3 VDD (power) "Power supply: 1.35V nominal. See Table 7 (page 22) for range.", N5 VDDQ (power) "DQ power supply: 1.2V nominal. Isolated on the device for improved noise immunity. See Table 7 (page 22) for range.", N7 VREF (in) "Input reference voltage: VDDQ/2 nominal. Provides a reference voltage for the input buffers.", N9 VDDQ (power) "DQ power supply: 1.2V nominal. Isolated on the device for improved noise immunity. See Table 7 (page 22) for range.", N11 VDD (power) "Power supply: 1.35V nominal. See Table 7 (page 22) for range."
part D pins: A2 VSS (power) "Ground.", A12 VSS (power) "Ground.", B2 VSS (power) "Ground.", B4 VSSQ (power) "DQ ground: Isolated on the device for improved noise immunity.", B10 VSSQ (power) "DQ ground: Isolated on the device for improved noise immunity.", B12 VSS (power) "Ground.", C5 VSSQ (power) "DQ ground: Isolated on the device for improved noise immunity.", C9 VSSQ (power) "DQ ground: Isolated on the device for improved noise immunity.", D2 VSSQ (power) "DQ ground: Isolated on the device for improved noise immunity.", D6 VSSQ (power) "DQ ground: Isolated on the device for improved noise immunity.", D8 VSSQ (power) "DQ ground: Isolated on the device for improved noise immunity.", D12 VSSQ (power) "DQ ground: Isolated on the device for improved noise immunity.", E1 VSS (power) "Ground.", E3 VSSQ (power) "DQ ground: Isolated on the device for improved noise immunity.", E11 VSSQ (power) "DQ ground: Isolated on the device for improved noise immunity.", E13 VSS (power) "Ground.", G1 VSS (power) "Ground.", G4 VSS (power) "Ground.", G6 VSS (power) "Ground.", G8 VSS (power) "Ground.", G10 VSS (power) "Ground.", G13 VSS (power) "Ground.", J3 VSSQ (power) "DQ ground: Isolated on the device for improved noise immunity.", J7 VSS (power) "Ground.", J11 VSSQ (power) "DQ ground: Isolated on the device for improved noise immunity.", K2 VSSQ (power) "DQ ground: Isolated on the device for improved noise immunity.", K6 VSSQ (power) "DQ ground: Isolated on the device for improved noise immunity.", K8 VSSQ (power) "DQ ground: Isolated on the device for improved noise immunity.", K12 VSSQ (power) "DQ ground: Isolated on the device for improved noise immunity.", L5 VSSQ (power) "DQ ground: Isolated on the device for improved noise immunity.", L9 VSSQ (power) "DQ ground: Isolated on the device for improved noise immunity.", M2 VSS (power) "Ground.", M4 VSSQ (power) "DQ ground: Isolated on the device for improved noise immunity.", M10 VSSQ (power) "DQ ground: Isolated on the device for improved noise immunity.", M12 VSS (power) "Ground.", N1 VSS (power) "Ground.", N13 VSS (power) "Ground."
part E pins: A4 NF "No function: These balls are connected to the DRAM, but provide no functionality.", A6 NF "No function: These balls are connected to the DRAM, but provide no functionality.", B3 NF "No function: These balls are connected to the DRAM, but provide no functionality.", B5 NF "No function: These balls are connected to the DRAM, but provide no functionality.", C2 NF "No function: These balls are connected to the DRAM, but provide no functionality.", C4 NF "No function: These balls are connected to the DRAM, but provide no functionality.", C6 NF "No function: These balls are connected to the DRAM, but provide no functionality.", D3 NF "No function: These balls are connected to the DRAM, but provide no functionality.", D5 NF "No function: These balls are connected to the DRAM, but provide no functionality.", E4 NF "No function: These balls are connected to the DRAM, but provide no functionality.", E6 NF "No function: These balls are connected to the DRAM, but provide no functionality.", F2 NF "No function: These balls are connected to the DRAM, but provide no functionality.", J2 NF "No function: These balls are connected to the DRAM, but provide no functionality.", J4 NF "No function: These balls are connected to the DRAM, but provide no functionality.", J6 NF "No function: These balls are connected to the DRAM, but provide no functionality.", K1 NF "No function: These balls are connected to the DRAM, but provide no functionality.", K3 NF "No function: These balls are connected to the DRAM, but provide no functionality.", K5 NF "No function: These balls are connected to the DRAM, but provide no functionality.", L2 NF "No function: These balls are connected to the DRAM, but provide no functionality.", L4 NF "No function: These balls are connected to the DRAM, but provide no functionality.", L6 NF "No function: These balls are connected to the DRAM, but provide no functionality.", M3 NF "No function: These balls are connected to the DRAM, but provide no functionality.", M5 NF "No function: These balls are connected to the DRAM, but provide no functionality.", N6 NF "No function: These balls are connected to the DRAM, but provide no functionality."